# EAGLE library part 686120183822 (library Eagle_FPC_CONNECTOR_AND_FFC_CAB (rev18c))
686120183822 WR-FPC 1.00mm SMT ZIF Vertical Type A <http://katalog.we-online.de/media/images/v2/Family_WR-FPC_6861xx183822.jpg> Details see: http://katalog.we-online.de/en/em/FPC_1_00_SMT_ZIF_VERTICAL_TYPE_A_6861xx183822 Created by Yingchun,shan 2016 (C) Wurth Elektronik
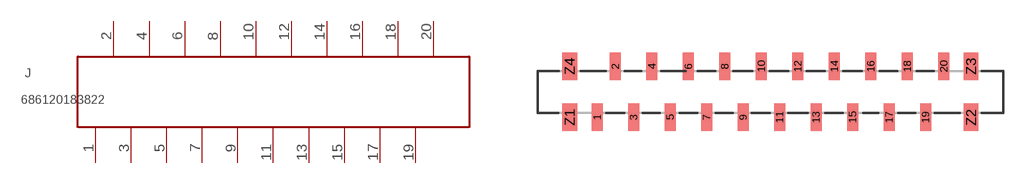
[diagram p173: symbol with the pads of 686120183822; footprint 686120183822]

Designator prefix J

## 686120183822  [686120183822]
1  1  pas
2  2  pas
3  3  pas
4  4  pas
5  5  pas
6  6  pas
7  7  pas
8  8  pas
9  9  pas
10  10  pas
11  11  pas
12  12  pas
13  13  pas
14  14  pas
15  15  pas
16  16  pas
17  17  pas
18  18  pas
19  19  pas
20  20  pas

## Footprint 686120183822 (pad centres in mm)
smd 0.6 x 1.5: 1 -9.5,-1.4; 2 -8.5,1.4; 3 -7.5,-1.4; 4 -6.5,1.4; 5 -5.5,-1.4; 6 -4.5,1.4; 7 -3.5,-1.4; 8 -2.5,1.4; 9 -1.5,-1.4; 10 -0.5,1.4; 11 0.5,-1.4; 12 1.5,1.4; 13 2.5,-1.4; 14 3.5,1.4; 15 4.5,-1.4; 16 5.5,1.4; 17 6.5,-1.4; 18 7.5,1.4; 19 8.5,-1.4; 20 9.5,1.4
smd 0.8 x 1.5: Z1 -11,-1.4; Z2 11,-1.4; Z3 11,1.4; Z4 -11,1.4